# EAGLE library part AD724 (library mjg)
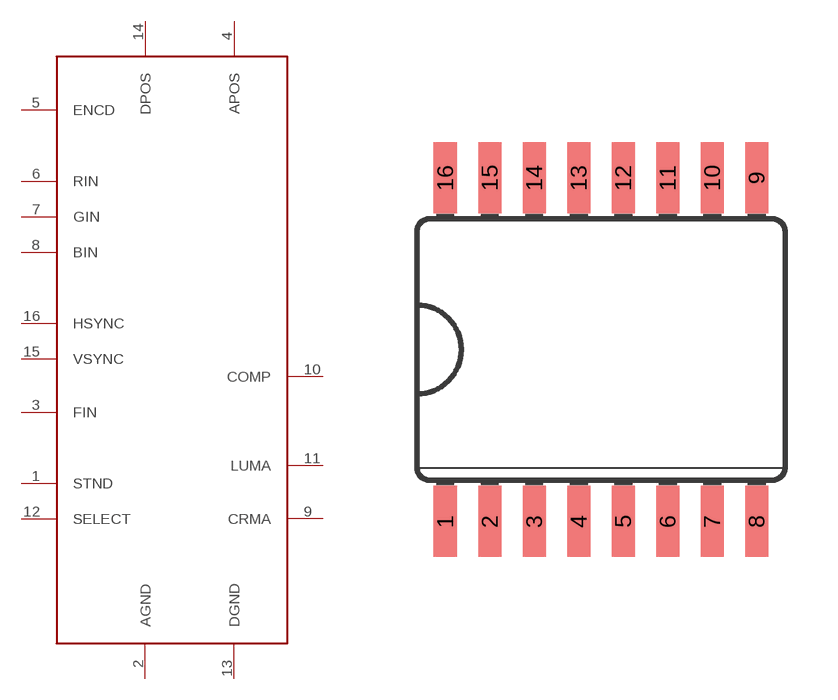
[diagram p1: symbol with the pads of SO16L; footprint SO16L]

Designator prefix -

## AD724  [SO16L]
1  STND
2  AGND
3  FIN
4  APOS
5  ENCD
6  RIN
7  GIN
8  BIN
9  CRMA
10  COMP
11  LUMA
12  SELECT
13  DGND
14  DPOS
15  VSYNC
16  HSYNC

## Footprint SO16L (pad centres in mm)
Small Outline Package .300 SIOC Source: http://www.maxim-ic.com/cgi-bin/packages?pkg=16%2FSOIC%2E300&Type=Max
smd 0.66 x 2.032: 1 -4.445,-4.902; 2 -3.175,-4.902; 3 -1.905,-4.902; 4 -0.635,-4.902; 5 0.635,-4.902; 6 1.905,-4.902; 7 3.175,-4.902; 8 4.445,-4.902; 9 4.445,4.902; 10 3.175,4.902; 11 1.905,4.902; 12 0.635,4.902; 13 -0.635,4.902; 14 -1.905,4.902; 15 -3.175,4.902; 16 -4.445,4.902